# EAGLE library part SE050C1HQ1_Z01SCZ (library SE050C1HQ1_Z01SCZ)
Security ICs / Authentication ICs ECC, RSA, AES, 3DES, MIFARE KDF, CL-IF, I2C Master Source: Datasheet <http://www.nxp.com/docs/en/data-sheet/SE050-DATASHEET.pdf>
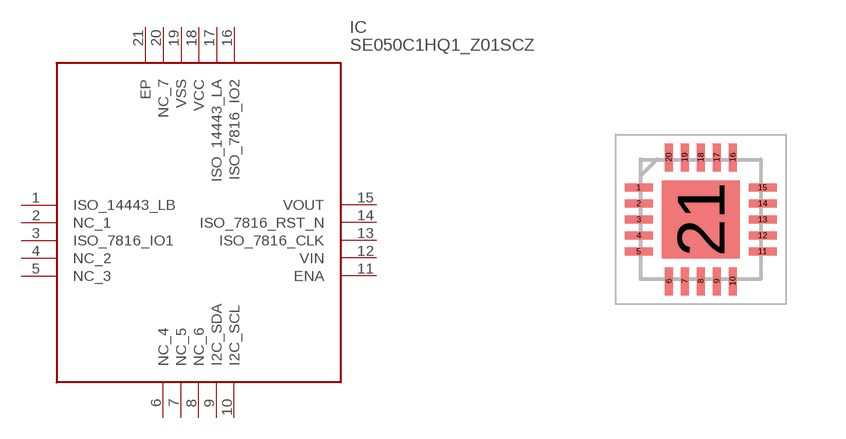
[diagram p0: symbol with the pads of QFN40P300X300X33-21N; footprint QFN40P300X300X33-21N]

Designator prefix IC

## SE050C1HQ1_Z01SCZ (Description: Security ICs / Authentication ICs ECC, RSA, AES, 3DES, MIFARE KDF, CL-IF, I<sup>2</sup>C Master; Height: 0.33mm; Manufacturer_Name: NXP; Manufacturer_Part_Number: SE050C1HQ1/Z01SCZ; Mouser_Part_Number: 771-SE050C1HQ1Z01SCZ; Mouser_Price-Stock: https://www.mouser.co.uk/ProductDetail/NXP-Semiconductors/SE050C1HQ1-Z01SCZ?qs=uwxL4vQweFPAe9Cpm7Fm%252BQ%3D%3D)  [QFN40P300X300X33-21N]
1  ISO_14443_LB
2  NC_1
3  ISO_7816_IO1
4  NC_2
5  NC_3
6  NC_4
7  NC_5
8  NC_6
9  I2C_SDA
10  I2C_SCL  in
11  ENA  in
12  VIN  pwr
13  ISO_7816_CLK  in
14  ISO_7816_RST_N  in
15  VOUT
16  ISO_7816_IO2
17  ISO_14443_LA
18  VCC  pwr
19  VSS  pwr
20  NC_7
21  EP

## Footprint QFN40P300X300X33-21N (pad centres in mm)
HX2QFN20
smd 0.7 x 0.2: 1 -1.55,0.8; 2 -1.55,0.4; 3 -1.55,0; 4 -1.55,-0.4; 5 -1.55,-0.8; 11 1.55,-0.8; 12 1.55,-0.4; 13 1.55,0; 14 1.55,0.4; 15 1.55,0.8
smd 0.2 x 0.7: 6 -0.8,-1.55; 7 -0.4,-1.55; 8 0,-1.55; 9 0.4,-1.55; 10 0.8,-1.55; 16 0.8,1.55; 17 0.4,1.55; 18 0,1.55; 19 -0.4,1.55; 20 -0.8,1.55
smd 1.95 x 1.95: 21 0,0